# Altium footprint library L7805 5v D-PAK.PcbLib: 1 footprints
Each footprint in its own frame and in the unit in brackets; x right, y up, seen from the top. Pads: shape width x height; smd on the part's side, far side on the other; paste and mask are expansions set on the pad; w line width, h text height; cw(c..) or ccw(c..) is an arc to the next point about the centre after c.
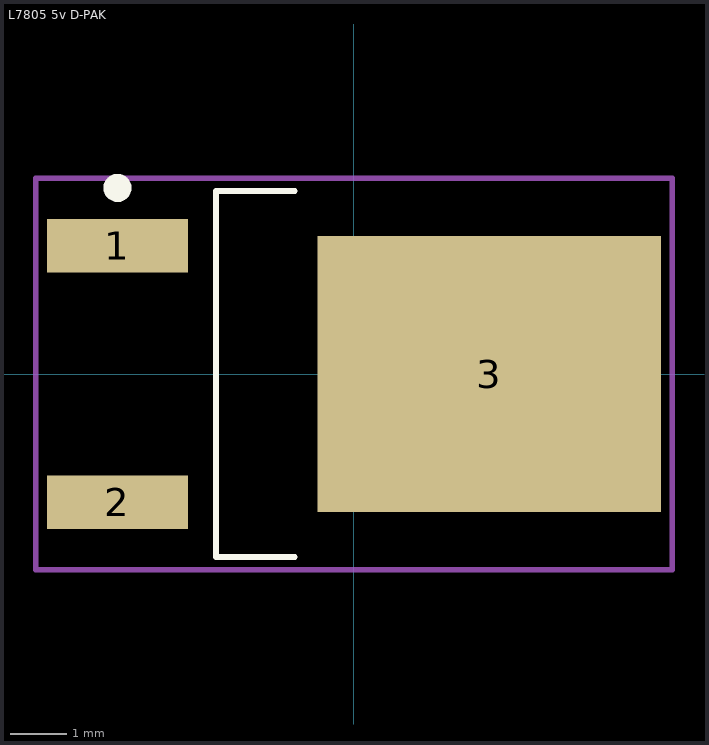
[diagram p0: the footprint, top view; thin cyan lines are the x and y axes]

## L7805 5v D-PAK [mm] "D-PAK, 3-Pads, Body 6,40x6,59mm (max), IPC Medium Density"
height 2.3
pads (3):
  rect 2.5x0.95 smd: 1(-4.2,2.28) 2(-4.2,-2.28)
  rect 6.1x4.9 smd: 3(2.4,0)
Top Overlay:
  circle w0.25: c-4.2,3.305 r0.125
  lines w0.1: -1.05,-3.25 -2.45,-3.25 -2.45,3.25 -1.05,3.25
Mechanical 3:
  lines w0.1: -0.5,0 0.5,0 ; 0,-0.5 0,0.5 ; -5.65,-3.475 -5.65,3.475 5.65,3.475 5.65,-3.475 -5.65,-3.475
3D body: height 2.3, standoff 0, extent -2.45,-3.225 4.15,3.225